# Altium integrated library sensor-heraeus.IntLib: 2 symbols
Pins are listed as number, name and electrical type; pins without a type are passive.

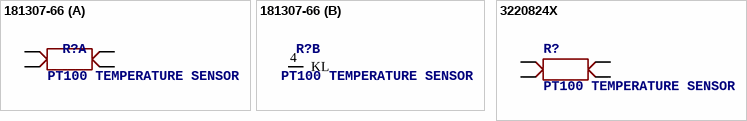
[diagram p0: symbols 181307-66 to 3220824X]

## 181307-66
designator R?, comment PT100 TEMPERATURE SENSOR
OC_FARNELL: unknown; OC_NEWARK: unknown
footprint SOT223
part A pins: 1A PT100-A1, 1B PT100-A2, 3A PT100-B1, 3B PT100-B2
part B pins: 4 KL

## 3220824X
designator R?, comment PT100 TEMPERATURE SENSOR
OC_FARNELL: unknown; OC_NEWARK: unknown
footprint PT1206
pins: 1A PT100-A1, 1B PT100-A2, 2A PT100-B1, 2B PT100-B2